# Altium footprint library PcbLib1.PcbLib: 11 footprints
Each footprint in its own frame and in the unit in brackets; x right, y up, seen from the top. Pads: shape width x height; smd on the part's side, far side on the other; paste and mask are expansions set on the pad; w line width, h text height; cw(c..) or ccw(c..) is an arc to the next point about the centre after c.
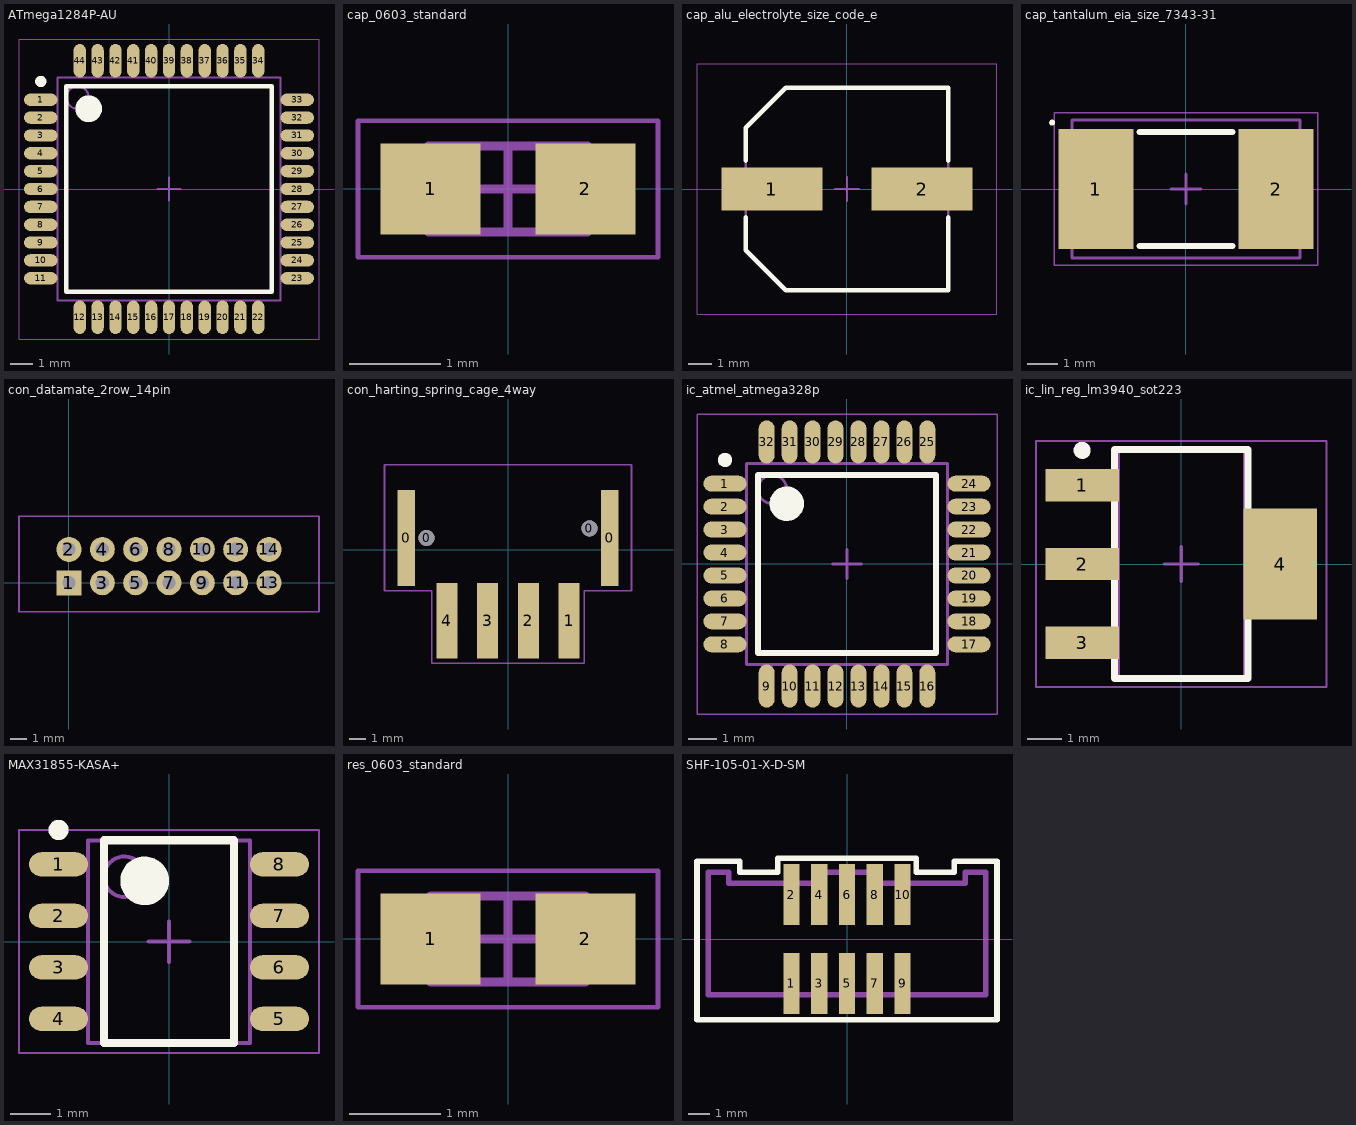
[diagram p0: the footprints below, top view; thin cyan lines are the x and y axes]

## ATmega1284P-AU [mm] "TQFP, 44-Leads, Body 10,00x10,00mm, Pitch 0,80mm, IPC Medium Density"
height 1.2
pads (44):
  oval 1.5x0.55 smd: 1(-5.75,4) 2(-5.75,3.2) 3(-5.75,2.4) 4(-5.75,1.6) 5(-5.75,0.8) 6(-5.75,0) 7(-5.75,-0.8) 8(-5.75,-1.6) 9(-5.75,-2.4) 10(-5.75,-3.2) 11(-5.75,-4) 23(5.75,-4) 24(5.75,-3.2) 25(5.75,-2.4) 26(5.75,-1.6) 27(5.75,-0.8) 28(5.75,0) 29(5.75,0.8) 30(5.75,1.6) 31(5.75,2.4) 32(5.75,3.2) 33(5.75,4)
  oval 0.55x1.5 smd: 12(-4,-5.75) 13(-3.2,-5.75) 14(-2.4,-5.75) 15(-1.6,-5.75) 16(-0.8,-5.75) 17(0,-5.75) 18(0.8,-5.75) 19(1.6,-5.75) 20(2.4,-5.75) 21(3.2,-5.75) 22(4,-5.75) 34(4,5.75) 35(3.2,5.75) 36(2.4,5.75) 37(1.6,5.75) 38(0.8,5.75) 39(0,5.75) 40(-0.8,5.75) 41(-1.6,5.75) 42(-2.4,5.75) 43(-3.2,5.75) 44(-4,5.75)
Top Overlay:
  circle w0.6: c-3.6,3.6 r0.3
  circle w0.25: c-5.75,4.825 r0.125
  lines w0.2: -4.6,-4.6 4.6,-4.6 4.6,4.6 -4.6,4.6 -4.6,-4.6
Mechanical 13:
  circle w0.1: c-4.1,4.1 r0.5
  lines w0.1: -5,-5 5,-5 5,5 -5,5 -5,-5
Mechanical 15:
  lines w0.05: -6.725,-6.725 6.725,-6.725 6.725,6.725 -6.725,6.725 -6.725,-6.725
  lines w0.1: -0.5,0 0.5,0 ; 0,-0.5 0,0.5
3D body "TQFP80P1200X1200X120-44N.step": height 1.2, standoff 0, extent -6,-6 6,6

## cap_0603_standard [mm] "Generic 0603 chip capacitor (IPC-SM-782)"
height 0.85
pads (2):
  rect 1.1x1 smd: 1(-0.85,0) 2(0.85,0)
Mechanical 13:
  lines w0.1: -0.875,-0.475 -0.875,0.475 0.875,0.475 0.875,-0.475 -0.875,-0.475
Mechanical 15:
  lines w0.05: -1.65,-0.75 -1.65,0.75 1.65,0.75 1.65,-0.75 -1.65,-0.75
  lines w0.1: -0.475,0 0.475,0 ; 0,-0.475 0,0.475
3D body "cap_0603_standard.step": height 0.85, standoff 0, extent -0.875,-0.475 0.875,0.475

## cap_alu_electrolyte_size_code_e [mm] "Aluminum Electrolytic Capacitor, Body 8,30x8,30x8,00mm, IPC Low Density"
height 8
pads (2):
  rect 4.25x1.8 smd: 1(-3.15,0) 2(3.15,0)
Top Overlay:
  lines w0.2: -4.25,-1.2 -4.25,-2.575 -2.575,-4.25 4.25,-4.25 4.25,-1.2 ; -4.25,1.2 -4.25,2.575 -2.575,4.25 4.25,4.25 4.25,1.2
Mechanical 13:
  lines w0.1: -4.25,-2.575 -4.25,2.575 -2.575,4.25 4.25,4.25 4.25,-4.25 -2.575,-4.25 -4.25,-2.575
Mechanical 15:
  lines w0.05: -6.3,-5.25 6.3,-5.25 6.3,5.25 -6.3,5.25 -6.3,-5.25
  lines w0.1: -0.5,0 0.5,0 ; 0,-0.5 0,0.5
3D body "CAPAE9083X80M.step": height 8, standoff 0, extent -4.5,-4.25 4.5,4.25

## cap_tantalum_eia_size_7343-31 [mm] "Generic tantalum capacitor, EIA size code 7343-31"
height 3.1
pads (2):
  rect 2.5x4 smd: 1(-3,0) 2(3,0)
Top Overlay:
  circle w0.1: c-4.462,2.212 r0.05
  lines w0.2: -1.55,-1.9 1.55,-1.9 ; -1.55,1.9 1.55,1.9
Mechanical 13:
  lines w0.1: -3.8,-2.3 3.8,-2.3 3.8,2.3 -3.8,2.3 -3.8,-2.3
Mechanical 15:
  lines w0.05: -4.4,-2.55 4.4,-2.55 4.4,2.55 -4.4,2.55 -4.4,-2.55
  lines w0.1: -0.5,0 0.5,0 ; 0,-0.5 0,0.5
3D body "cap_tantalum_eia_size_7343-31.step": height 3.1, standoff 0, extent -3.8,-2.3 3.8,2.3

## con_datamate_2row_14pin [mm] "Datamate 14pin pcb-to-wire connector"
height 5.56
pads (14):
  rect 1.5x1.5 hole 0.8 mask+0.1: 1(0,0)
  round 1.5 hole 0.8 mask+0.1: 2(0,2) 3(2,0) 4(2,2) 5(4,0) 6(4,2) 7(6,0) 8(6,2) 9(8,0) 10(8,2) 11(10,0) 12(10,2) 13(12,0) 14(12,2)
Mechanical 15:
  lines w0.1: -3,-1.75 -3,4 1.5,4 10.5,4 15,4 15,-1.75 -3,-1.75
3D body "m80-8531442_asm.stp": height 8.05, standoff -3.65, extent -2.95,-1.775 14.95,4.075

## con_harting_spring_cage_4way [mm] "Harting part no  14 01 041 3102 000"
pads (8):
  rect 1.1x6 smd: 0(-6.35,0.75) 0(6.35,0.75)
  round 1 hole 1: 0(-5.08,0.75) 0(5.08,1.35)
  rect 1.3x4.7 smd: 1(3.81,-4.4) 2(1.27,-4.4) 3(-1.27,-4.4) 4(-3.81,-4.4)
Mechanical 15:
  lines w0.1: -7.7,-2.55 -7.7,5.3 7.7,5.3 7.7,-2.55 4.76,-2.55 4.76,-7.05 -4.76,-7.05 -4.76,-2.55 -7.7,-2.55
3D body "14010413102000_100540063MOD000A.STP": height 5, standoff -0.9, extent -7.425,-6.05 7.425,5.5

## ic_atmel_atmega328p [mm] "TQFP, 32-Leads, Body 7,00x7,00mm, Pitch 0,80mm, IPC Medium Density"
height 1.2
pads (32):
  oval 1.5x0.55 smd: 1(-4.25,2.8) 2(-4.25,2) 3(-4.25,1.2) 4(-4.25,0.4) 5(-4.25,-0.4) 6(-4.25,-1.2) 7(-4.25,-2) 8(-4.25,-2.8) 17(4.25,-2.8) 18(4.25,-2) 19(4.25,-1.2) 20(4.25,-0.4) 21(4.25,0.4) 22(4.25,1.2) 23(4.25,2) 24(4.25,2.8)
  oval 0.55x1.5 smd: 9(-2.8,-4.25) 10(-2,-4.25) 11(-1.2,-4.25) 12(-0.4,-4.25) 13(0.4,-4.25) 14(1.2,-4.25) 15(2,-4.25) 16(2.8,-4.25) 25(2.8,4.25) 26(2,4.25) 27(1.2,4.25) 28(0.4,4.25) 29(-0.4,4.25) 30(-1.2,4.25) 31(-2,4.25) 32(-2.8,4.25)
Top Overlay:
  circle w0.25: c-4.25,3.625 r0.125
  circle w0.6: c-2.1,2.1 r0.3
  lines w0.2: -3.1,-3.1 -3.1,3.1 3.1,3.1 3.1,-3.1 -3.1,-3.1
Mechanical 13:
  circle w0.1: c-2.6,2.6 r0.5
  lines w0.1: -3.5,-3.5 -3.5,3.5 3.5,3.5 3.5,-3.5 -3.5,-3.5
Mechanical 15:
  lines w0.05: -5.225,-5.225 -5.225,5.225 5.225,5.225 5.225,-5.225 -5.225,-5.225
  lines w0.1: -0.5,0 0.5,0 ; 0,-0.5 0,0.5
3D body "ic_atmel_atmega328p.step": height 1.2, standoff 0, extent -4.5,-4.5 4.5,4.5

## ic_lin_reg_lm3940_sot223 [mm] "LM3940 linear voltage regulator, SOT223"
height 1.8
pads (4):
  rect 2.15x0.95 smd: 1(-2.9,2.3) 2(-2.9,0) 3(-2.9,-2.3)
  rect 2.15x3.25 smd: 4(2.9,0)
Top Overlay:
  circle w0.25: c-2.9,3.325 r0.125
  lines w0.2: -1.95,-3.35 1.95,-3.35 1.95,3.35 -1.95,3.35 -1.95,-3.35
Mechanical 13:
  lines w0.1: -1.85,-3.35 1.85,-3.35 1.85,3.35 -1.85,3.35 -1.85,-3.35
Mechanical 15:
  lines w0.05: -4.25,-3.6 4.25,-3.6 4.25,3.6 -4.25,3.6 -4.25,-3.6
  lines w0.1: -0.5,0 0.5,0 ; 0,-0.5 0,0.5
3D body "ic_lin_reg_lm3940_sot223.step": height 1.8, standoff 0.02, extent -3.46,-3.35 3.46,3.35

## MAX31855-KASA+ [mm] "SOIC, 8-Leads, Body 4,90x3,90mm, Pitch 1,27mm, IPC Medium Density"
height 1.75
pads (8):
  oval 1.45x0.6 smd: 1(-2.725,1.905) 2(-2.725,0.635) 3(-2.725,-0.635) 4(-2.725,-1.905) 5(2.725,-1.905) 6(2.725,-0.635) 7(2.725,0.635) 8(2.725,1.905)
Top Overlay:
  circle w0.25: c-2.725,2.755 r0.125
  circle w0.6: c-0.6,1.5 r0.3
  lines w0.2: -1.6,-2.5 -1.6,2.5 1.6,2.5 1.6,-2.5 -1.6,-2.5
Mechanical 13:
  circle w0.1: c-1.1,1.6 r0.5
  lines w0.1: -2,-2.5 -2,2.5 2,2.5 2,-2.5 -2,-2.5
Mechanical 15:
  lines w0.05: -3.7,-2.75 -3.7,2.75 3.7,2.75 3.7,-2.75 -3.7,-2.75
  lines w0.1: -0.5,0 0.5,0 ; 0,-0.5 0,0.5
3D body "SOIC127P600X175-8N.step": height 1.75, standoff 0, extent -3,-2.5 3,2.5

## res_0603_standard [mm] "Generic 0603 chip resistor (IPC-SM-782)"
height 0.6
pads (2):
  rect 1.1x1 smd: 1(-0.85,0) 2(0.85,0)
Mechanical 13:
  lines w0.1: -0.85,-0.475 0.85,-0.475 0.85,0.475 -0.85,0.475 -0.85,-0.475
Mechanical 15:
  lines w0.05: -1.65,-0.75 1.65,-0.75 1.65,0.75 -1.65,0.75 -1.65,-0.75
  lines w0.1: -0.475,0 0.475,0 ; 0,-0.475 0,0.475
3D body "res_0603_standard.step": height 0.6, standoff 0, extent -0.85,-0.475 0.85,0.475

## SHF-105-01-X-D-SM [mil]
pads (10):
  rect 29x110 smd mask+2: 1(-100,-80) 2(-100,80) 3(-50,-80) 4(-50,80) 5(0,-80) 6(0,80) 7(50,-80) 8(50,80) 9(100,-80) 10(100,80)
Top Overlay:
  lines w10: -270,-145 -270,140 -193,140 -193,120 -125,120 -125,145 125,145 125,120 193,120 193,140 270,140 270,-145 -270,-145
Mechanical 1:
  lines w10: -250,-100 -250,120 -213,120 -213,100 -50,100 -50,120 50,120 50,100 213,100 213,120 250,120 250,-100 -250,-100
  text "J1" at -19.57,-20 h30
3D body "SHF-105-01-X-D-SM-LC.step": height 214.45, standoff -50.55, extent -250,-120.16 250,120.17